# Altium schematic symbol library Symbols.SchLib: 494 symbols (part 5 of 5)
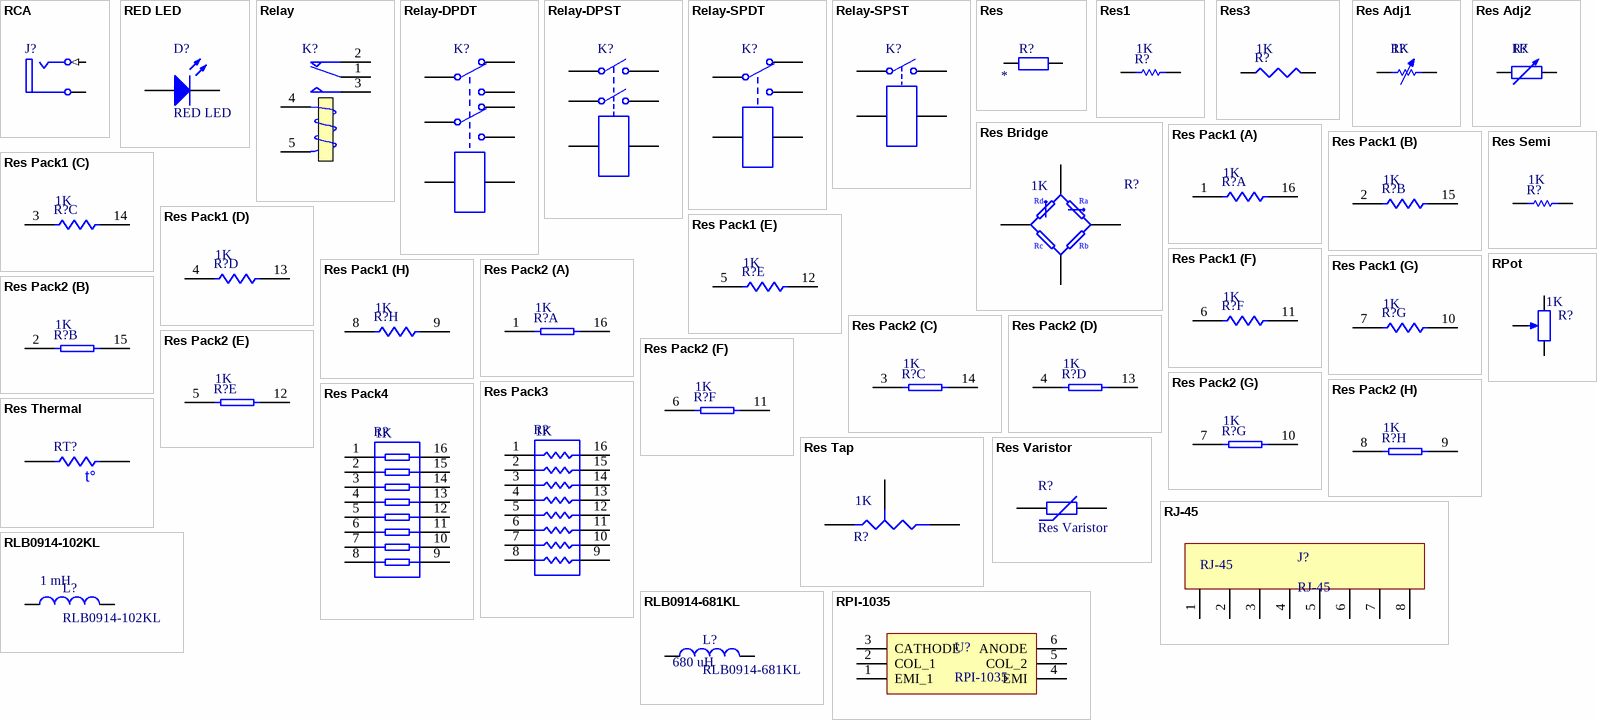
[diagram p17: symbols RCA to RPot]

## Res Pack3
designator R?  value 1K
Isolated Resistor Network; Published: 24-Mar-1999; LatestRevisionDate: 29-May-2009; LatestRevisionNote: IPC-7351 Footprint Added.; PackageReference: SO-16; Publisher: Altium Limited; PackageDescription: 16-Pin Small Outline Integrated Circuit 1.27 mm Pitch; Code_JEDEC: MS-012-AC; Code_IPC: SOIC127P600-16
footprint SO-16_N (SOIC, 16-Leads, Body 9.9x3.9mm, Pitch 1.27mm, IPC Medium Density)
footprint SO-16_L (SOIC, 16-Leads, Body 9.9x3.9mm, Pitch 1.27mm, IPC High Density)
footprint SO-16_M (SOIC, 16-Leads, Body 9.9x3.9mm, Pitch 1.27mm, IPC Low Density)
pins: 1, 2, 3, 4, 5, 6, 7, 8, 9, 10, 11, 12, 13, 14, 15, 16

## Res Pack4
designator R?  value 1K
Isolated Resistor Network; Published: 24-Mar-1999; LatestRevisionDate: 29-May-2009; LatestRevisionNote: IPC-7351 Footprint Added.; PackageVersion: Oct-2003; PackageReference: SSOP16; Publisher: Altium Limited; PackageDescription: 16-Pin Plastic Small Outline Package 0.65 mm Pitch; Code_JEDEC: MO-150-AC; Code_IPC: SOP65P780-16
footprint SSOP16_N (SOP, 16-Leads, Body 6.2x5.3mm, Pitch 0.65mm, IPC Medium Density)
footprint SSOP16_L (SOP, 16-Leads, Body 6.2x5.3mm, Pitch 0.65mm, IPC High Density)
footprint SSOP16_M (SOP, 16-Leads, Body 6.2x5.3mm, Pitch 0.65mm, IPC Low Density)
pins: 1, 2, 3, 4, 5, 6, 7, 8, 9, 10, 11, 12, 13, 14, 15, 16

## Res Semi
designator R?  value 1K
Semiconductor Resistor; Published: 8-Jun-2000; LatestRevisionDate: 17-Jul-2002; LatestRevisionNote: Re-released for DXP Platform.; PackageReference: AXIAL-0.5; Publisher: Altium Limited; PackageDescription: Axial Device, Thru-Hole; 2 Leads; 0.5 in Pin Spacing
footprint AXIAL-0.5 (Axial Device, Thru-Hole; 2 Leads; 0.5 in Pin Spacing)
pins: 1, 2

## Res Tap
designator R?  value 1K
Tapped Resistor; Sim Note: Enter the Resistance value and the set point into parameter fields.; Set Position: 0.5; Published: 24-Mar-1999; LatestRevisionDate: 17-Jul-2002; LatestRevisionNote: Re-released for DXP Platform.; PackageReference: VR3; Publisher: Altium Limited; PackageDescription: Variable Resistor, Thru-Hole; 3 Leads
footprint VR3 (Thru-Hole; 3 Leads)
simulation model POT (Potentiometer)
signal-integrity model Res Tap
pins: 1 A, 2 B, 3 TAP

## Res Thermal
designator RT?
Thermistor; Published: 24-Mar-1999; LatestRevisionDate: 29-May-2009; LatestRevisionNote: IPC-7351 Footprint Added.; PackageVersion: Mar-2003; PackageReference: 6-0805; Publisher: Altium Limited; PackageDescription: Chip Resistor 0805 Case Size; Code_IPC: RESC2012
footprint 6-0805_N (Chip Resistor, Body 2.0x1.2mm, IPC Medium Density)
footprint 6-0805_L (Chip Resistor, Body 2.0x1.2mm, IPC High Density)
footprint 6-0805_M (Chip Resistor, Body 2.0x1.2mm, IPC Low Density)
pins: 1, 2
text: t°

## Res Varistor
designator R?
Varistor (Voltage-Sensitive Resistor); ComponentLink2Description: Datasheet; ComponentLink1Description: Supplierlink
footprint 6-0805_N (Chip Resistor, Body 2.0x1.2mm, IPC Medium Density)
footprint 6-0805_L (Chip Resistor, Body 2.0x1.2mm, IPC High Density)
footprint 6-0805_M (Chip Resistor, Body 2.0x1.2mm, IPC Low Density)
pins: 1, 2

## RJ-45
designator J?
ComponentLink1Desciption: Supplierlink; PackageDescription: /; ComponentLink1URL: /; ComponentLink2Description: Datasheet; ComponentLink2URL: /; Supplier1: Farnell; SupplierPartNumber1: /
footprint RJ-45 (RJ-45 - Female)
pins: 1, 2, 3, 4, 5, 6, 7, 8

## RLB0914-102KL
designator L?  value 1 mH
RLB0914-102KL - Power inductor; ComponentLink1Description: Supplierlink; PackageDescription: Power inductor; ComponentLink1URL: http://si.farnell.com/bourns/rlb0914-102kl/inductor-radial-1000uh-10-0-3a/dp/1929764?ost=RLB0914-102KL&ddkey=http%3Asl-SL%2FElement14_Slovenia%2Fsearch; ComponentLink2Description: Datasheet; ComponentLink2URL: http://www.farnell.com/datasheets/2360349.pdf?_ga=2.135326777.922487917.1516839557-388806631.1512489217&_gac=1.249791092.1516696408.CjwKCAiA15vTBRAHEiwA7Snfc5aPYeD-J5ttgd5Xc7ZZSl9RhLSVBUwuJalpvFcgftWcOaxsZ6YiBhoC5JcQAvD_BwE; Supplier1: Farnell; SupplierPartNumber1: 1929764
footprint Inductor_RLB0914 (Inductor)
pins: 2, 3

## RLB0914-681KL
designator L?  value 680 uH
Power inductor; ComponentLink1Description: Supplierlink; PackageDescription: RLB0914; ComponentLink1URL: https://eu.mouser.com/ProductDetail/Bourns/RLB0914-681KL?qs=sGAEpiMZZMvMnj9fkisOGACPsI8OTpBu; ComponentLink2Description: Datasheet; ComponentLink2URL: https://eu.mouser.com/datasheet/2/54/RLB-972764.pdf; Supplier1: Mouser; SupplierPartNumber1: 652-RLB0914-681KL
footprint RLB0914 (Radial Lead Inductor)
pins: 1, 2

## RPI-1035
designator U?
RPI-1035 Surface Mount Type 4-Direction Detector; ComponentLink1Description: Supplierlink; PackageDescription: RPI-1035; ComponentLink1URL: https://eu.mouser.com/ProductDetail/ROHM-Semiconductor/RPI-1035?qs=sGAEpiMZZMueJGT%2F0PGc44KkpygAwh8fznas5BrcBRY%3D; ComponentLink2Description: Datasheet; ComponentLink2URL: https://eu.mouser.com/datasheet/2/348/rpi-1035-516277.pdf; Supplier1: Mouser; SupplierPartNumber1: 755-RPI-1035
footprint RPI-1035 (Surface Mount Type 4-Direction Detector)
pins: 1 EMI_1, 2 COL_1, 3 CATHODE, 4 EMI, 5 COL_2, 6 ANODE

## RPot
designator R?  value 1K
Potentiometer; Sim Note: Enter the Resistance value and the set point into parameter fields.; Set Position: 0.5; Published: 8-Jun-2000; LatestRevisionDate: 17-Jul-2002; LatestRevisionNote: Re-released for DXP Platform.; PackageReference: VR5; Publisher: Altium Limited; PackageDescription: Variable Resistor, Thru-Hole; 3 Leads
footprint VR5 (Thru-Hole; 3 Leads)
pins: 1, 2, 3
1 alternate drawing of the same symbol

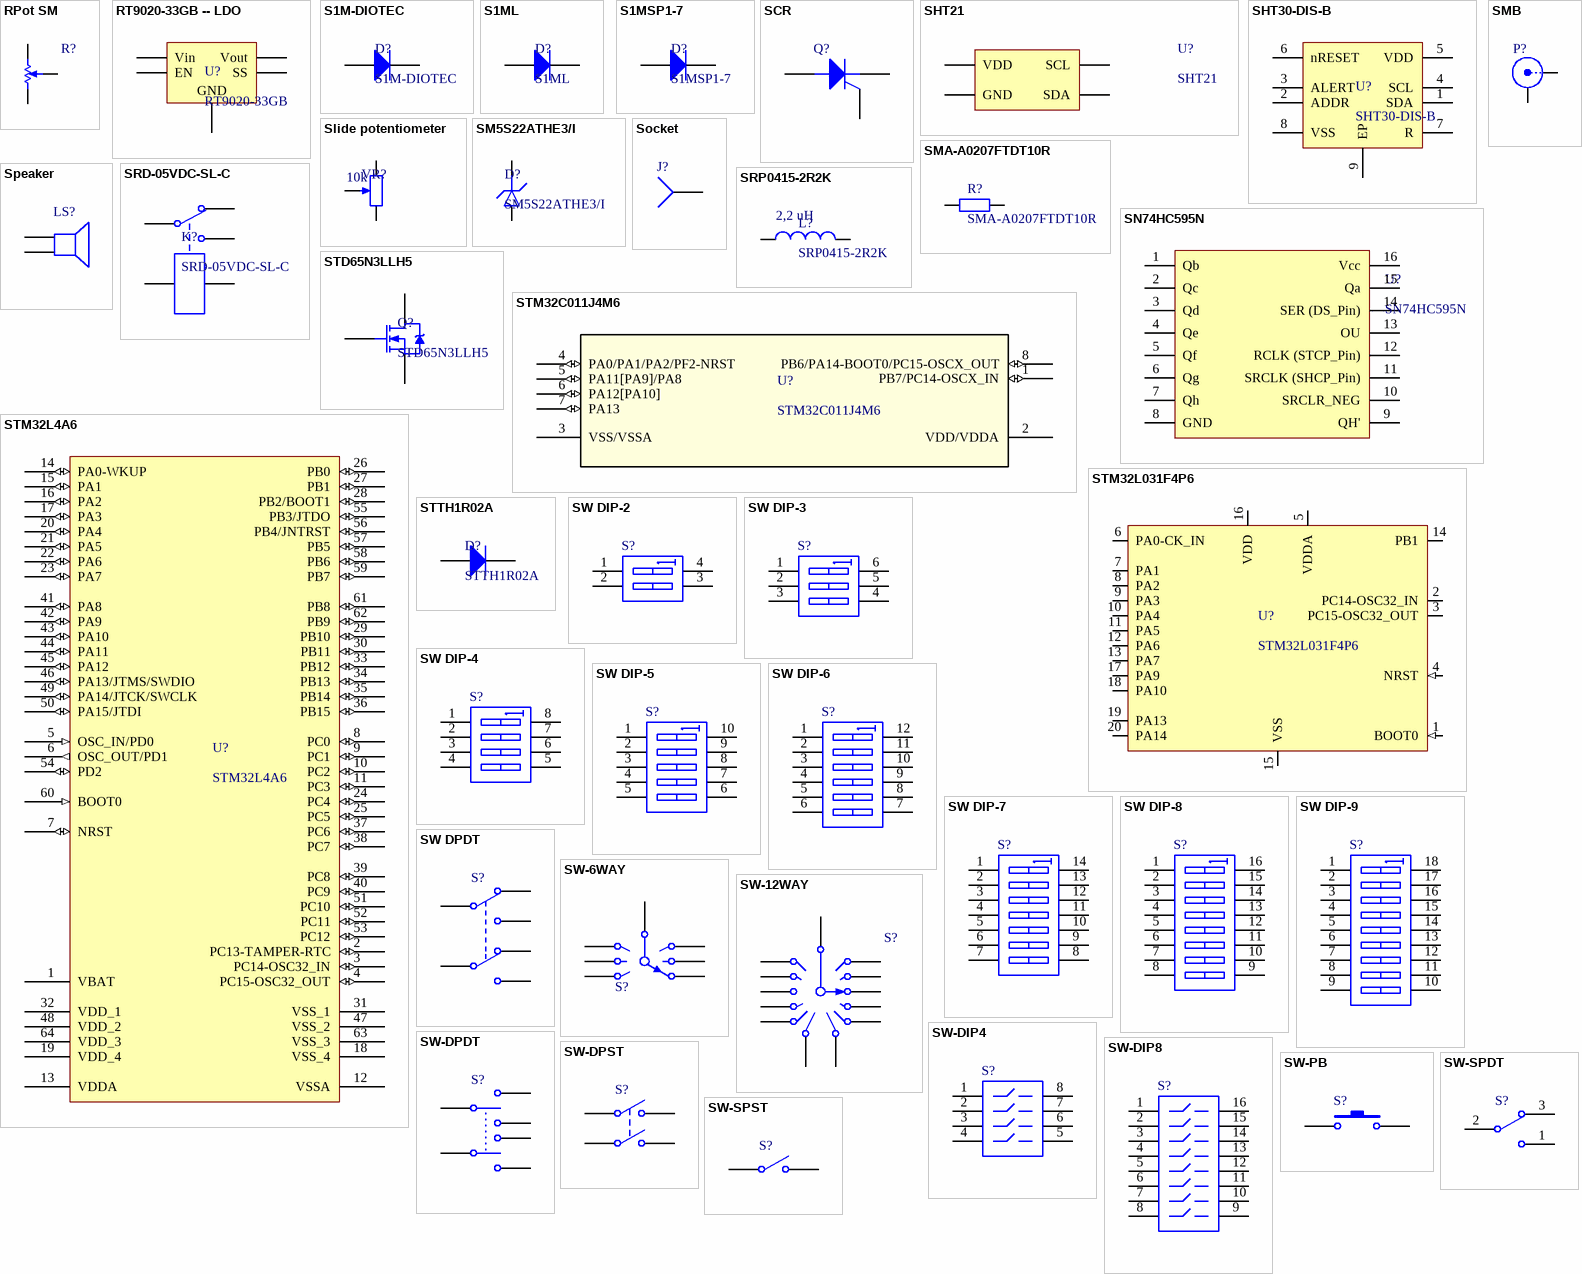
[diagram p11: symbols RPot SM to SW-SPST]

## RPot SM
designator R?
Square Trimming Potentiometer; Published: 17-Dec-2003; DatasheetVersion: Oct-2003; PackageReference: POT4MM-2; Publisher: Altium Limited; PackageDescription: Square Trimming Potentiometer; ComponentLink1Description: Manufacturer Link; ComponentLink1URL: http://bourns.com/2/search.html
footprint POT4MM-2 (Square Trimming Potentiometer)
pins: CCW -, CW +, W
1 alternate drawing of the same symbol

## RT9020-33GB -- LDO
designator U?, comment RT9020-33GB
LDO; 2.2V to 5.5V, 250mV Dropout, 3.3Vout, 500mAout; ComponentLink1Description: Supplierlink; PackageDescription: SOT-23-5; ComponentLink1URL: https://si.farnell.com/richtek/rt9020-33gb/ldo-fixed-3-3v-0-5a-sot-23-5/dp/2377629; ComponentLink2Description: Datasheet; ComponentLink2URL: http://www.farnell.com/datasheets/1782114.pdf?_ga=2.221635611.222861561.1549803267-1151660017.1534334933&_gac=1.93756527.1548779359.Cj0KCQiAkMDiBRDNARIsACKP1FEg8SfSMTNRZFh814XftwOM7CrPVrvo9a7QR5ChQ4a7cfNiQJOCbUsaAr2lEALw_wcB; Supplier1: Farnell; SupplierPartNumber1: 2377629
footprint SOT23-5 (SOT23, 5-Leads, Body 2,90x2,80mm, Pitch 0,95mm, IPC Medium Density)
pins: 1 Vin, 2 GND, 3 EN, 4 SS, 5 Vout

## S1M-DIOTEC
designator D?
Rectifying diode; ComponentLink1Description: Supplierlink; PackageDescription: SMA; ComponentLink1URL: https://www.tme.eu/sl/details/s1m-dio/univerzalne-smd-diode/diotec-semiconductor/s1m/; ComponentLink2Description: Datasheet; ComponentLink2URL: https://www.tme.eu/sl/Document/847625da169ad5ed3efdb446f845004f/s1a.pdf; Supplier1: TME; SupplierPartNumber1: https://www.tme.eu/sl/details/s1m-dio/univerzalne-smd-diode/diotec-semiconductor/s1m/
footprint SMA
pins: 1 A, 2 K

## S1ML
designator D?
Standard Recovery Diode; ComponentLink1Description: Supplierlink; PackageDescription: Sub SMA; ComponentLink1URL: http://si.farnell.com/taiwan-semiconductor/s1ml/diode-sgp-1a-1000v/dp/1559155?st=S1ML; ComponentLink2Description: Datasheet; ComponentLink2URL: http://www.farnell.com/datasheets/2357978.pdf?_ga=2.171170336.1251588291.1526283900-1866036872.1506721459&_gac=1.156643785.1526543482.Cj0KCQjw0PTXBRCGARIsAKNYfG3CgC2yuWwn0NFqThRVas1EoCsUnIm2-1JegXclTCFoy4mvnlJ8NMoaAiQiEALw_wcB; Supplier1: Farnell; SupplierPartNumber1: 1559155
footprint Sub-SMA
pins: 1 A, 2 K

## S1MSP1-7
designator D?
S1MSP1-7 -  Standard Power Diode; ComponentLink1Description: Supplierlink; PackageDescription: PowerDI123; ComponentLink1URL: http://si.farnell.com/diodes-inc/s1msp1-7/rectifier-single-1kv-1a-powerdi123/dp/2709563?ost=2709563&iscrfnonsku=false&ddkey=http%3Asl-SL%2FElement14_Slovenia%2Fsearch; ComponentLink2Description: Datasheet; ComponentLink2URL: http://www.farnell.com/datasheets/2211407.pdf?_ga=2.218430301.595311603.1510137230-1866036872.1506721459&_gac=1.149546820.1509893228.CjwKCAjw7frPBRBVEiwAuDf_LXlrjw5vBXiuyKtw25GuiPLDKV5cnVdEcFzcF753v9PaBj8Hg6kd-RoC_yYQAvD_BwE; Supplier1: Farnell; SupplierPartNumber1: 2709563
footprint PowerDI123
pins: 1 A, 2 K

## SCR
designator Q?
Silicon Controlled Rectifier; Published: 8-Jun-2000; LatestRevisionDate: 17-Jul-2002; LatestRevisionNote: Re-released for DXP Platform.; PackageReference: TO-220-AB; Publisher: Altium Limited; Code_JEDEC: TO-220-AB
footprint TO-220-AB (TO, Thru-Hole, Vertical, Heatsink Mounted; 3 In-Line Leads; Pitch 2.54 mm)
pins: 1 A, 2 G, 3 K

## SHT21
designator U?
SENSIRION  SHT21  Humidity Sensor; ComponentLink1Desciption: Supplierlink; PackageDescription: Humidity Sensor; ComponentLink1URL: http://si.farnell.com/sensirion/sht21/sensor-humidity-temp-3x3mm-2/dp/1855468; ComponentLink2Description: Datasheet; ComponentLink2URL: http://www.farnell.com/datasheets/1780639.pdf?_ga=1.117639745.938531117.1476279422; Supplier1: Farnell; SupplierPartNumber1: 1855468
pins: 1 SDA, 2 GND, 5 VDD, 6 SCL

## SHT30-DIS-B
designator U?
Humidity and temperature sensor; PackageDescription: DFN; ComponentLink2Description: Datasheet; ComponentLink1URL: https://www.tme.eu/sl/details/sht30-dis-b/tipala-vlaznosti/sensirion/1-101400-01/; Supplier1: TME; SupplierPartNumber1: https://www.tme.eu/sl/details/sht30-dis-b/tipala-vlaznosti/sensirion/1-101400-01/; ComponentLink1Description: Supplierlink; ComponentLink2URL: http://www.mouser.com/ds/2/682/Sensirion_Humidity_Sensors_SHT3x_Datasheet_digital-971521.pdf
footprint DFN_SHT3x
pins: 1 SDA, 2 ADDR, 3 ALERT, 4 SCL, 5 VDD, 6 nRESET, 7 R, 8 VSS, 9 EP

## Slide potentiometer
designator VR?, comment value 10k  (hidden comment: Potentiometer)
PTA4543-2015DPA103  Potentiometer; ComponentLink1Desciption: Supplierlink; PackageDescription: /; ComponentLink1URL: http://si.farnell.com/bourns/pta4543-2015dpa103/potentiometer-slide-10k-45mm/dp/1688414?ost=PTA4543-2015DPA103&selectedCategoryId=&categoryNameResp=Vse%2Bkategorije&searchView=table&iscrfnonsku=false; ComponentLink2Description: Datasheet; ComponentLink2URL: http://www.farnell.com/datasheets/1874874.pdf?_ga=1.46992743.1762308356.1476454189; Supplier1: Farnell; Supplier Part Number 1: 1688414
footprint Slide potentiometer
pins: 1, 2, 3

## SM5S22ATHE3/I
designator D?
ESD Suppressors / TVS Diodes 5W,22V 5%,SMD PAR AEC-Q101 Qualified; ComponentLink1Description: Supplierlink; PackageDescription: PowerDI123; ComponentLink1URL: https://eu.mouser.com/ProductDetail/Vishay-General-Semiconductor/SM5S22ATHE3-I?qs=Vcr9%2FL0R50gQwdAZT2MpLw%3D%3D; ComponentLink2Description: Datasheet; ComponentLink2URL: https://www.vishay.com/docs/87609/sm5s10atthrusm5s36at.pdf; Supplier1: Mouser; SupplierPartNumber1: 78-SM5S22ATHE3/I
footprint DO-218AB_SM_VIS
pins: A, K

## SMA-A0207FTDT10R
designator R?
Surface Mount MELF Resistor; Value: 10; ComponentLink1Description: Supplierlink; PackageDescription: 0207; ComponentLink1URL: http://si.farnell.com/te-connectivity/sma-a0207ftdt10r/melf-res-auto-metal-film-10r-0207/dp/2838189; ComponentLink2Description: Datasheet; ComponentLink2URL: http://www.farnell.com/datasheets/2574553.pdf?_ga=2.187356328.1251588291.1526283900-1866036872.1506721459&_gac=1.79558118.1525855951.Cj0KCQjwuMrXBRC_ARIsALWZrIibZWF17JbgJiSdnIQu6R7N70BQTmGWvfufllYUypD4y4Tmy1UjmekaAhjDEALw_wcB; Supplier1: Farnell; SupplierPartNumber1: 2838189
footprint SMA-A0207
pins: 1, 2

## SMB
designator P?
SMB Straight Connector; LatestRevisionDate: 17-Jul-2002; LatestRevisionNote: Re-released for DXP Platform.; Publisher: Altium Limited
footprint SMB_V-RJ45 (Connector; SMB Straight)
signal-integrity model Connector
pins: 1 X, 2 Y

## SN74HC595N
designator U?
SN74HC595N - Shift Register; ComponentLink1Desciption: Supplierlink; PackageDescription: Shift Register; ComponentLink1URL: http://si.farnell.com/texas-instruments/sn74hc595n/shift-register-8bit-74hc595-dip16/dp/9591664; ComponentLink2Description: Datasheet; ComponentLink2URL: http://www.ti.com/lit/ds/symlink/sn74hc595.pdf; Supplier1: Farnell; Supplier Part Number 1: 9591664
footprint DIP-16 (DIP; 16 Leads; Row Spacing 7.62 mm; Pitch 2.54 mm)
pins: 1 Qb, 2 Qc, 3 Qd, 4 Qe, 5 Qf, 6 Qg, 7 Qh, 8 GND, 9 QH', 10 SRCLR_NEG, 11 SRCLK (SHCP_Pin), 12 RCLK (STCP_Pin), 13 OU, 14 SER (DS_Pin), 15 Qa, 16 Vcc

## Socket
designator J?
Socket; LatestRevisionDate: 17-Jul-2002; LatestRevisionNote: Re-released for DXP Platform.; Publisher: Altium Limited
footprint PIN1 (Connector; Socket)
signal-integrity model Connector
pins: 1

## Speaker
designator LS?
Loudspeaker; Published: 24-Mar-1999; LatestRevisionDate: 17-Jul-2002; LatestRevisionNote: Re-released for DXP Platform.; PackageReference: PIN2; Publisher: Altium Limited
footprint PIN2 (Loudspeaker; 2 Leads)
pins: 1, 2

## SRD-05VDC-SL-C
designator K?
LNK306DN - AC/DC Off-Line Switcher IC; ComponentLink1Description: Supplierlink; PackageDescription: Relay; ComponentLink2Description: Datasheet; ComponentLink2URL: https://datasheetspdf.com/pdf-file/720556/Songle/SRD-05VDC-SL-C/1
footprint SRD-05VDC (5 Round Pins)
pins: 1, 2, 3, 4, 5

## SRP0415-2R2K
designator L?  value 2,2 uH
Power Inductor (SMD), 2.2 µH, 4.2 A, Shielded, 6.5 A, SRP0415; ComponentLink1Description: Supplierlink; PackageDescription: 4,1 x 4,4 mm; ComponentLink1URL: https://si.farnell.com/bourns/srp0415-2r2k/inductor-2-2uh-shielded-4-2a/dp/3410557?st=srp0415-2r2k; ComponentLink2Description: Datasheet; ComponentLink2URL: http://www.farnell.com/datasheets/1780639.pdf?_ga=1.11763974http://www.farnell.com/datasheets/1870377.pdf?_ga=2.97039455.1713077709.1510607325-537448299.1510088633&_gac=1.187392858.1510611497.CjwKCAiAoqXQBRA8EiwAIIOWsuqxOSeUt0rc_qHWWY-BiEXPlEM73fxauWSkJ-z_Lq9BZTEckF83wRoCiNIQAvD_BwE5.938531117.1476279422; Supplier1: Farnell; SupplierPartNumber1: 3410557
footprint SRP0415
pins: 1, 2

## STD65N3LLH5
designator Q?
Power MOSFET, N Channel, 30 V, 65 A, 0.0061 ohm; ComponentLink1Description: Supplierlink; PackageDescription: TO-252 (DPAK); ComponentLink1URL: https://si.farnell.com/stmicroelectronics/std65n3llh5/mosfet-n-ch-30v-65a-to-252/dp/2807192; ComponentLink2Description: Datasheet; ComponentLink2URL: http://www.farnell.com/datasheets/2371833.pdf; Supplier1: Farnell; SupplierPartNumber1: 2807192
footprint DPAK (TO-252)
pins: 1 G, 2 D, 3 S

## STM32C011J4M6
designator U?
STM32 Family STM32C0 Series Microcontrollers, ARM Cortex-M0+, 32 bit, 48 MHz, 16 KB; ComponentLink1Description: Supplierlink; PackageDescription: SO8N; ComponentLink1URL: https://si.farnell.com/stmicroelectronics/stm32c011j4m6/arm-mcu-32bit-48mhz-nsoic-8/dp/4138300?ost=stm32c011j4m6; ComponentLink2Description: Datasheet; ComponentLink2URL: https://www.farnell.com/datasheets/3916622.pdf; Supplier1: Farnell; SupplierPartNumber1: 4138300
footprint SO-8_STM
pins: 1 PB7/PC14-OSCX_IN (io), 2 VDD/VDDA (power), 3 VSS/VSSA (power), 4 PA0/PA1/PA2/PF2-NRST (io), 5 PA11[PA9]/PA8 (io), 6 PA12[PA10] (io), 7 PA13 (io), 8 PB6/PA14-BOOT0/PC15-OSCX_OUT (io)

## STM32L4A6
designator U?
STM32L4A6 Microcontroller; ComponentLink1Desciption: Supplierlink; PackageDescription: Microcontroller; ComponentLink1URL: http://si.farnell.com/stmicroelectronics/stm32l4a6rgt7/mcu-arm-cortex-m4-80mhz-lqfp-64/dp/2758831?ost=STM32L4A6&searchView=table&iscrfnonsku=false&ddkey=http%3Asl-SL%2FElement14_Slovenia%2Fsearch; ComponentLink2Description: Datasheet; ComponentLink2URL: http://www.farnell.com/datasheets/2283397.pdf?_ga=2.48280294.1999906171.1506331828-1762308356.1476454189&_gac=1.181737045.1505417300.Cj0KCQjw0ejNBRCYARIsACEBhDMkoxB3c397j3-6BvrbkTGkJ_OmE0RzXQhL_VQJ3DPIhHEcu3y60B8aAjszEALw_wcB; Supplier1: Farnell; Supplier Part Number 1: 2758831
footprint LQFP64 (Thin QFP, 64-Leads, Body 10x10mm, Pitch 0.5mm, IPC Medium Density)
pins: 1 VBAT (power), 2 PC13-TAMPER-RTC (io), 3 PC14-OSC32_IN (io), 4 PC15-OSC32_OUT (io), 5 OSC_IN/PD0 (in), 6 OSC_OUT/PD1 (out), 7 NRST (io), 8 PC0 (io), 9 PC1 (io), 10 PC2 (io), 11 PC3 (io), 12 VSSA (power), 13 VDDA (power), 14 PA0-WKUP (io), 15 PA1 (io), 16 PA2 (io), 17 PA3 (io), 18 VSS_4 (power), 19 VDD_4 (power), 20 PA4 (io), 21 PA5 (io), 22 PA6 (io), 23 PA7 (io), 24 PC4 (io), 25 PC5 (io), 26 PB0 (io), 27 PB1 (io), 28 PB2/BOOT1 (io), 29 PB10 (io), 30 PB11 (io), 31 VSS_1 (power), 32 VDD_1 (power), 33 PB12 (io), 34 PB13 (io), 35 PB14 (io), 36 PB15 (io), 37 PC6 (io), 38 PC7 (io), 39 PC8 (io), 40 PC9 (io), 41 PA8 (io), 42 PA9 (io), 43 PA10 (io), 44 PA11 (io), 45 PA12 (io), 46 PA13/JTMS/SWDIO (io), 47 VSS_2 (power), 48 VDD_2 (power), 49 PA14/JTCK/SWCLK (io), 50 PA15/JTDI (io), 51 PC10 (io), 52 PC11 (io), 53 PC12 (io), 54 PD2 (io), 55 PB3/JTDO (io), 56 PB4/JNTRST (io), 57 PB5 (io), 58 PB6 (io), 59 PB7 (io), 60 BOOT0 (in), 61 PB8 (io), 62 PB9 (io), 63 VSS_3 (power), 64 VDD_3 (power)

## STM32L031F4P6
designator U?
Access line ultra-low-power 32-bit MCU Arm®-based / Cortex®-M0+, up to 32KB Flash, 8KB SRAM, 1KB EEPROM, ADC; ComponentLink1Description: Supplierlink; PackageDescription: TSSOP; ComponentLink1URL: https://si.farnell.com/stmicroelectronics/stm32l031f4p6/mcu-arm-cortex-m0-32mhz-tssop/dp/2770299?gclid=Cj0KCQjwgNanBhDUARIsAAeIcAsvU6dmqvMp5MVE-0sNDLjaUK4LtGccWXp1TXJz6kN2eYlTZZ089QkaAo1SEALw_wcB&mckv=sMuoSKpXF_dc|pcrid|289561886841|kword|stm32l031f4p6|match|p|plid||slid||product||pgrid|35804823499|ptaid|aud-913880707580:kwd-530299959512|&CMP=KNC-GSI-GEN-SKU-G50-STMICROELECTRONICS-0617; ComponentLink2Description: Datasheet; ComponentLink2URL: https://4donline.ihs.com/images/VipMasterIC/IC/SGST/SGST-S-A0002219924/SGST-S-A0002219924-1.pdf?hkey=6D3A4C79FDBF58556ACFDE234799DDF0; Supplier1: Farnell; SupplierPartNumber1: 2770299
footprint TSSOP-20 (TSOP, 20-Leads, Body 6,50x4,40mm, Pitch 0,65mm, IPC Medium Density)
pins: 1 BOOT0 (in), 2 PC14-OSC32_IN, 3 PC15-OSC32_OUT, 4 NRST (in), 5 VDDA (power), 6 PA0-CK_IN, 7 PA1, 8 PA2, 9 PA3, 10 PA4, 11 PA5, 12 PA6, 13 PA7, 14 PB1, 15 VSS (power), 16 VDD (power), 17 PA9, 18 PA10, 19 PA13, 20 PA14

## STTH1R02A
designator D?
STTH1R02A -  Fast / Ultrafast Diode; ComponentLink1Description: Supplierlink; PackageDescription: DO-214AC (SMA); ComponentLink1URL: http://si.farnell.com/stmicroelectronics/stth1r02a/026003000-discretes/dp/2353664; ComponentLink2Description: Datasheet; ComponentLink2URL: http://www.farnell.com/datasheets/1724014.pdf?_ga=2.217187156.398955308.1510494977-1866036872.1506721459&_gac=1.115362548.1509893228.CjwKCAjw7frPBRBVEiwAuDf_LXlrjw5vBXiuyKtw25GuiPLDKV5cnVdEcFzcF753v9PaBj8Hg6kd-RoC_yYQAvD_BwE; Supplier1: Farnell; SupplierPartNumber1: 2353664
footprint DO-214AC (SMA)
pins: 1 A, 2 K

## SW DIP-2
designator S?
DIP Switch, 2 Position, SPST; Published: 24-Mar-1999; LatestRevisionDate: 17-Jul-2002; LatestRevisionNote: Re-released for DXP Platform.; PackageReference: DIP-4; Publisher: Altium Limited
footprint DIP-4 (DIP; 4 Leads; Row Spacing 7.62 mm; Pitch 2.54 mm)
pins: 1 A1, 2 A2, 3 B2, 4 B1

## SW DIP-3
designator S?
DIP Switch, 3 Position, SPST; Published: 24-Mar-1999; LatestRevisionDate: 17-Jul-2002; LatestRevisionNote: Re-released for DXP Platform.; PackageReference: DIP-6; Publisher: Altium Limited; Code_JEDEC: MO-001-AM
footprint DIP-6 (DIP; 6 Leads; Row Spacing 7.62 mm; Pitch 2.54 mm)
pins: 1 A1, 2 A2, 3 A3, 4 B3, 5 B2, 6 B1

## SW DIP-4
designator S?
DIP Switch, 4 Position, SPST; Published: 24-Mar-1999; LatestRevisionDate: 29-May-2009; LatestRevisionNote: IPC-7351 Footprint Added.; PackageVersion: Dec-2002; PackageReference: SO8; Publisher: Altium Limited; PackageDescription: 8-Pin Small Outline Integrated Circuit 1.27 mm Pitch; Code_JEDEC: MS-012-AA; Code_IPC: SOIC127P600-8
footprint SO8_N (SOIC, 8-Leads, Body 4.9x3.9mm, Pitch 1.27mm, IPC Medium Density)
footprint SO8_L (SOIC, 8-Leads, Body 4.9x3.9mm, Pitch 1.27mm, IPC High Density)
pins: 1 A1, 2 A2, 3 A3, 4 A4, 5 B4, 6 B3, 7 B2, 8 B1

## SW DIP-5
designator S?
DIP Switch, 5 Position, SPST; Published: 24-Mar-1999; LatestRevisionDate: 17-Jul-2002; LatestRevisionNote: Re-released for DXP Platform.; PackageReference: N10A; Publisher: Altium Limited
footprint N10A (DIP; 10 Leads; Row Spacing 7.62 mm; Pitch 2.54 mm)
pins: 1 A1, 2 A2, 3 A3, 4 A4, 5 A5, 6 B5, 7 B4, 8 B3, 9 B2, 10 B1

## SW DIP-6
designator S?
DIP Switch, 6 Position, SPST; Published: 24-Mar-1999; LatestRevisionDate: 17-Jul-2002; LatestRevisionNote: Re-released for DXP Platform.; PackageReference: DIP-12/SW; Publisher: Altium Limited; PackageDescription: DIP Switch; 12 Leads
footprint DIP-12/SW (DIP Switch; 12 Leads)
pins: 1 A1, 2 A2, 3 A3, 4 A4, 5 A5, 6 A6, 7 B6, 8 B5, 9 B4, 10 B3, 11 B2, 12 B1

## SW DIP-7
designator S?
DIP Switch, 7 Position, SPST; Published: 24-Mar-1999; LatestRevisionDate: 17-Jul-2002; LatestRevisionNote: Re-released for DXP Platform.; PackageReference: DIP-14; Publisher: Altium Limited; Code_JEDEC: MO-001-AF
footprint DIP-14 (DIP; 14 Leads; Row Spacing 7.62 mm; Pitch 2.54 mm)
pins: 1 A1, 2 A2, 3 A3, 4 A4, 5 A5, 6 A6, 7 A7, 8 B7, 9 B6, 10 B5, 11 B4, 12 B3, 13 B2, 14 B1

## SW DIP-8
designator S?
DIP Switch, 8 Position, SPST; Published: 24-Mar-1999; LatestRevisionDate: 17-Jul-2002; LatestRevisionNote: Re-released for DXP Platform.; PackageReference: DIP_SW_8WAY_SMD; Publisher: Altium Limited; PackageDescription: DIP Switch; 16 Leads
footprint DIP_SW_8WAY_SMD (DIP Switch; 16 Leads)
pins: 1 A1, 2 A2, 3 A3, 4 A4, 5 A5, 6 A6, 7 A7, 8 A8, 9 B8, 10 B7, 11 B6, 12 B5, 13 B4, 14 B3, 15 B2, 16 B1

## SW DIP-9
designator S?
DIP Switch, 9 Position, SPST; Published: 24-Mar-1999; LatestRevisionDate: 17-Jul-2002; LatestRevisionNote: Re-released for DXP Platform.; PackageReference: DIP-18; Publisher: Altium Limited; Code_JEDEC: MO-036-AE
footprint DIP-18 (DIP; 18 Leads; Row Spacing 7.62 mm; Pitch 2.54 mm)
pins: 1 A1, 2 A2, 3 A3, 4 A4, 5 A5, 6 A6, 7 A7, 8 A8, 9 A9, 10 B9, 11 B8, 12 B7, 13 B6, 14 B5, 15 B4, 16 B3, 17 B2, 18 B1

## SW DPDT
designator S?
Switch; Published: 24-Mar-1999; LatestRevisionDate: 29-May-2009; LatestRevisionNote: IPC-7351 Footprint Added.; PackageVersion: Mar-2001; PackageReference: SOT23-6; Publisher: Altium Limited; PackageDescription: 6-Pin SOT-23 Package 0.95 mm Pitch, 2.7 mm Lead Span; Code_JEITA: SC-74; Code_IPC: SOT26A-6
footprint SOT23-6_N (SOT23, 6-Leads, Body 2.9x1.6mm, Pitch 0.95mm, Lead Span 2.7mm, IPC Medium Density)
footprint SOT23-6_L (SOT23, 6-Leads, Body 2.9x1.6mm, Pitch 0.95mm, Lead Span 2.7mm, IPC High Density)
footprint SOT23-6_M (SOT23, 6-Leads, Body 2.9x1.6mm, Pitch 0.95mm, Lead Span 2.7mm, IPC Low Density)
pins: 1 COMMON1, 2 NC1, 3 NO1, 4 NC2, 5 COMMON2, 6 NO2

## SW-6WAY
designator S?
6 Way Switch; Published: 24-Mar-1999; LatestRevisionDate: 17-Jul-2002; LatestRevisionNote: Re-released for DXP Platform.; PackageReference: SW-7; Publisher: Altium Limited; PackageDescription: Switch; 7 Leads
footprint SW-7 (Switch; 7 Leads)
pins: 1, 2, 3, 4, 5, 6, 7

## SW-12WAY
designator S?
12 Way Switch; Published: 24-Mar-1999; LatestRevisionDate: 17-Jul-2002; LatestRevisionNote: Re-released for DXP Platform.; PackageReference: DIP-13(14); Publisher: Altium Limited
footprint DIP-13(14) (DIP; 14 Leads (1 Absent); Row Spacing 7.62 mm; Pitch 2.54 mm)
pins: 1, 2, 3, 5, 6, 7, 8, 9, 10, 11, 12, 13, 14

## SW-DIP4
designator S?
DIP Switch; Published: 24-Mar-1999; LatestRevisionDate: 17-Jul-2002; LatestRevisionNote: Re-released for DXP Platform.; PackageReference: DIP-8; Publisher: Altium Limited
footprint DIP-8 (DIP; 8 Leads; Row Spacing 7.62 mm; Pitch 2.54 mm)
pins: 1, 2, 3, 4, 5, 6, 7, 8

## SW-DIP8
designator S?
4009 Series DIP Switch, Raised actuator; Published: 24-Mar-1999; LatestRevisionDate: 17-Dec-2003; LatestRevisionNote: PCB Footprint replaced.; PackageReference: DIP-16-KEY; Publisher: Altium Limited; PackageDescription: DIP; 16 Leads; Row Spacing 7.62 mm; Pitch 2.54 mm; ComponentLink1Description: Manufacturer Link; ComponentLink1URL: http://www.oupiin.com/prodindx.html#Headers
footprint DIP-16-KEY (DIP; 16 Leads; Row Spacing 7.62 mm; Pitch 2.54 mm)
pins: 1, 2, 3, 4, 5, 6, 7, 8, 9, 10, 11, 12, 13, 14, 15, 16

## SW-DPDT
designator S?
Double-Pole, Double-Throw Switch; Published: 24-Mar-1999; LatestRevisionDate: 17-Jul-2002; LatestRevisionNote: Re-released for DXP Platform.; PackageReference: DPDT-6; Publisher: Altium Limited; PackageDescription: Switch; 6 Leads
footprint DPDT-6 (Switch; 6 Leads)
pins: 1, 2, 3, 4, 5, 6

## SW-DPST
designator S?
Double-Pole, Single-Throw Switch; Published: 24-Mar-1999; LatestRevisionDate: 17-Jul-2002; LatestRevisionNote: Re-released for DXP Platform.; PackageReference: DPST-4; Publisher: Altium Limited; PackageDescription: Switch; 4 Leads
footprint DPST-4 (Switch; 4 Leads)
pins: 1 COMMON1, 2 NO1, 3 COMMON2, 4 NO2

## SW-PB
designator S?
Switch; Published: 24-Mar-1999; LatestRevisionDate: 17-Jul-2002; LatestRevisionNote: Re-released for DXP Platform.; PackageReference: SPST-2; Publisher: Altium Limited; PackageDescription: Switch; 2 Leads
footprint SPST-2 (Switch; 2 Leads)
pins: 1, 2

## SW-SPDT
designator S?
SPDT Subminiature Toggle Switch, Right Angle Mounting, Vertical Actuation; Published: 24-Mar-1999; LatestRevisionDate: 17-Dec-2003; LatestRevisionNote: Schematic revised, PCB Footprint replaced.; DatasheetVersion: 05-Dec-2000; PackageReference: TL36WW15050; Publisher: Altium Limited; PackageDescription: Switch; 4 Leads; ComponentLink1Description: Manufacturer Link; ComponentLink1URL: http://www.apem.com
footprint TL36WW15050 (Switch; 4 Leads)
pins: 1, 2, 3

## SW-SPST
designator S?
Single-Pole, Single-Throw Switch; Published: 24-Mar-1999; LatestRevisionDate: 17-Jul-2002; LatestRevisionNote: Re-released for DXP Platform.; PackageReference: SPST-2; Publisher: Altium Limited; PackageDescription: Switch; 2 Leads
footprint SPST-2 (Switch; 2 Leads)
pins: 1 COMMON, 2 NO

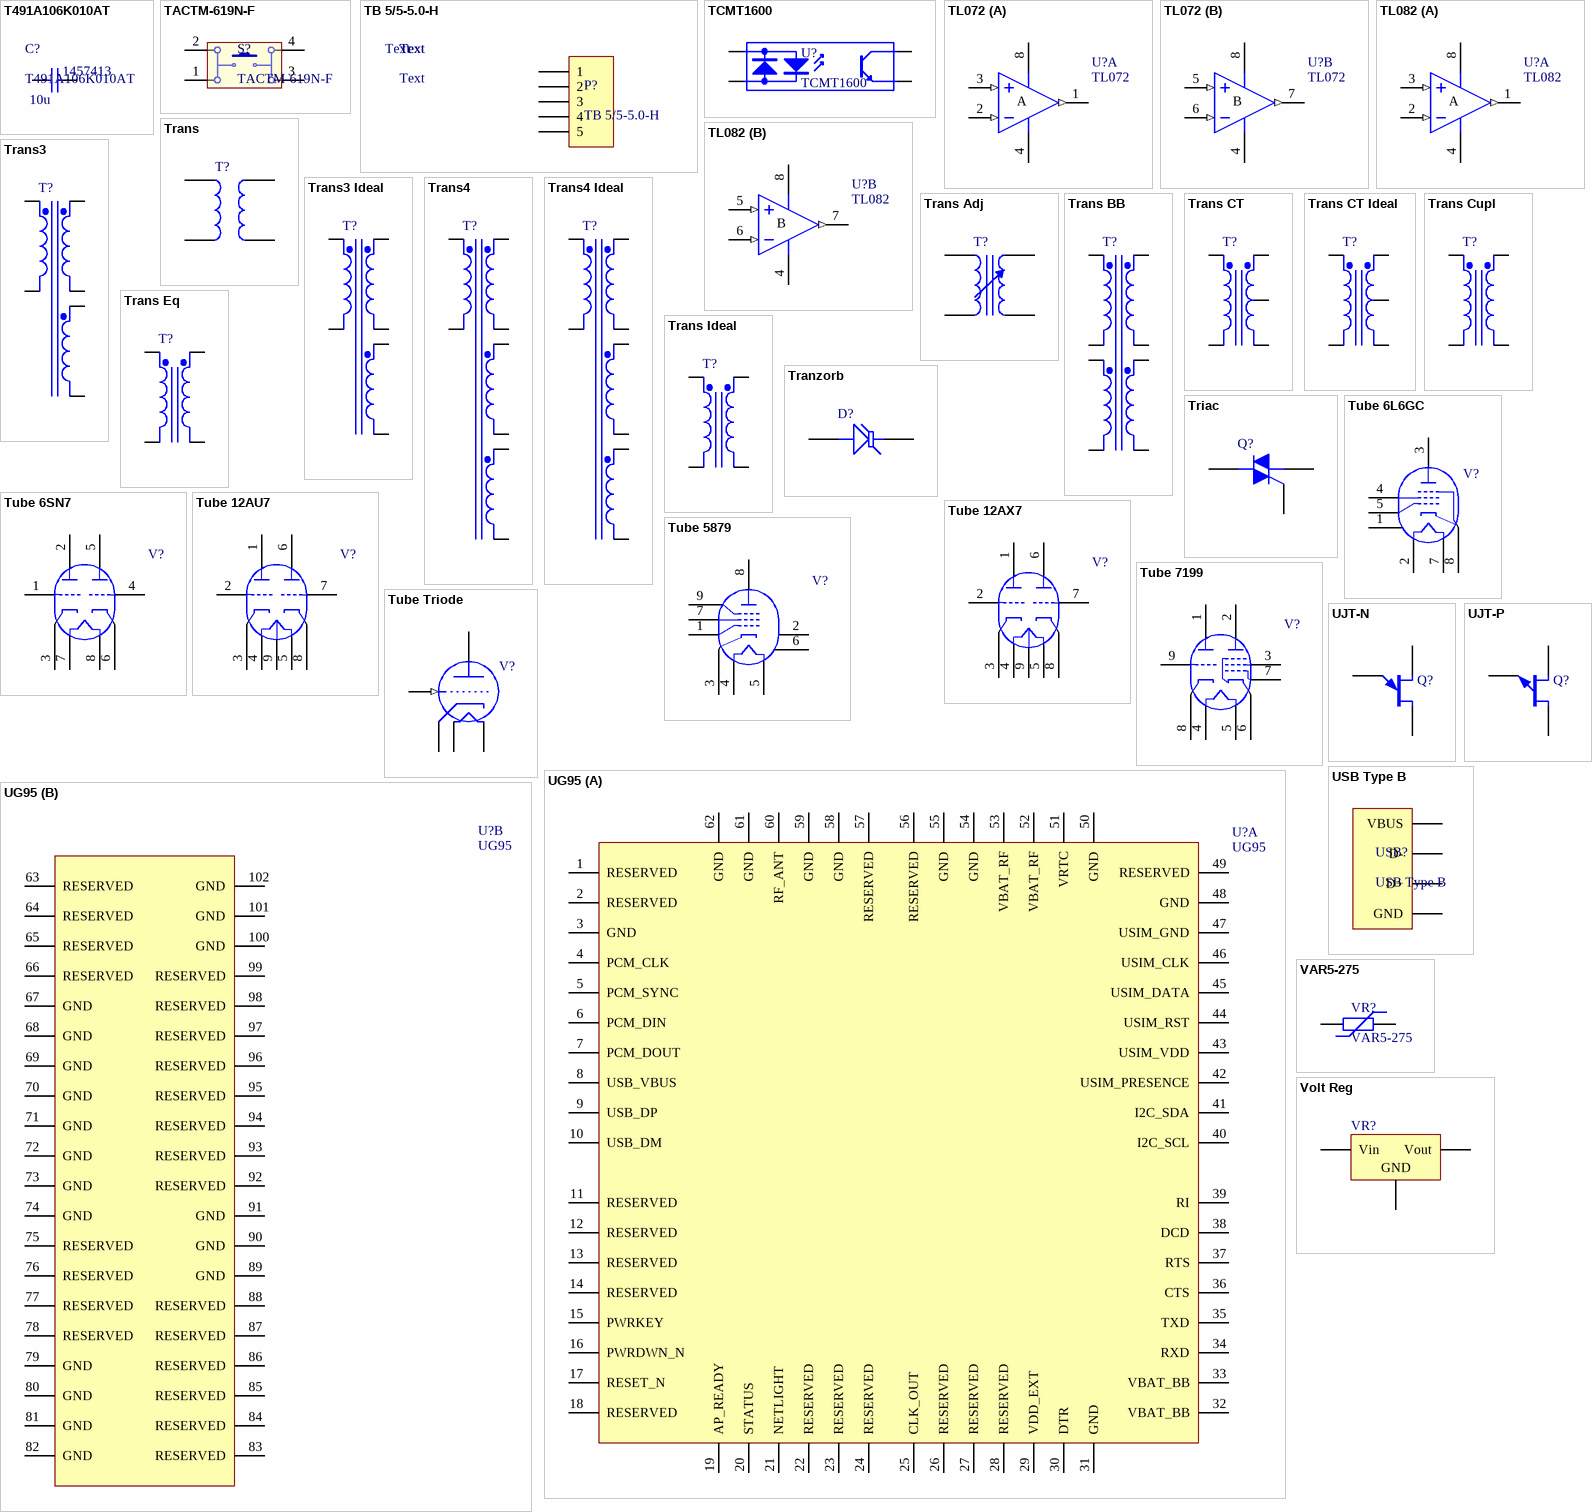
[diagram p12: symbols T491A106K010AT to Volt Reg]

## T491A106K010AT
designator C?  value 10u  Supplier Part Number 1: 1457413
Capacitor; ComponentLink1Desciption: Supplierlink; PackageDescription: Capacitor; ComponentLink1URL: http://si.farnell.com/kemet/t491a106k010at/cap-tant-10uf-10v-case-a/dp/1457413?ost=1457413&selectedCategoryId=&categoryNameResp=Vse%2Bkategorije&searchView=table&iscrfnonsku=false; ComponentLink2Description: Datasheet; ComponentLink2URL: http://www.farnell.com/datasheets/2119994.pdf?_ga=1.180748655.938531117.1476279422; Supplier1: Farnell
footprint T491A106K010AT (Chip Capacitor)
pins: 1, 2

## TACTM-619N-F
designator S?
Microswitch TACT; SPST-NO; Positions:2; 0.05A/12VDC; ComponentLink1Description: Supplierlink; ComponentLink1URL: https://www.tme.eu/en/details/tactm-619n-f/microswitches-tact/ninigi/; ComponentLink2Description: Datasheet; ComponentLink2URL: https://www.tme.eu/en/Document/4775f6520ae2603ad81b86e79483fd89/TACTM-619N-F-DTE.pdf; Supplier1: TME; SupplierPartNumber1: https://www.tme.eu/en/details/tactm-619n-f/microswitches-tact/ninigi/
footprint TACTM-619N-F (SPST-NO)
pins: 1, 2, 3, 4

## TB 5/5-5.0-H
designator P?
5/5-5.0-H -  Wire-To-Board Terminal Block; ComponentLink1Description: SupplierLink; ComponentLink1URL: http://si.farnell.com/phoenix-contact/pt1-5-5-5-0-h/terminal-block-wire-to-brd-5pos/dp/1793678; ComponentLink2Description: Datasheet; ComponentLink2URL: http://www.farnell.com/datasheets/2325514.pdf?_ga=2.170323240.922487917.1516839557-388806631.1512489217&_gac=1.247169526.1516696408.CjwKCAiA15vTBRAHEiwA7Snfc5aPYeD-J5ttgd5Xc7ZZSl9RhLSVBUwuJalpvFcgftWcOaxsZ6YiBhoC5JcQAvD_BwE; Supplier1: Farnell; SupplierPartNumber1: 1793678
footprint TB 5/5-5.0-H
pins: 1, 2, 3, 4, 5
text: Text

## TCMT1600
designator U?
ComponentLink1Description: Supplierlink; ComponentLink1URL: http://si.farnell.com/vishay/tcmt1600/optocoupler-transistor-o-p/dp/1469543?st=TCMT1600; ComponentLink2Description: Datasheet; ComponentLink2URL: http://www.farnell.com/datasheets/2049331.pdf?_ga=2.51402858.2976559.1516799392-1866036872.1506721459&_gac=1.247281142.1515412736.Cj0KCQiAyszSBRDJARIsAHAqQ4p5R3qZ2qs70hZPKglejP0cEAb9a5kdz8rr1XWlOilTbtuGZnZjed8aApCDEALw_wcB; Supplier1: Farnell; SupplierPartNumber1: 1469543
footprint SOP-4
pins: 1 A "Anode", 2 K "Cathode", 3 E "Emitter", 4 C "Collector"

## TL072
designator U?
TL072IDT  Operational Amplifier; PackageDescription: 8-Pin Small Outline Integrated Circuit 1.27 mm Pitch; ComponentLink1Description: Supplierlink; ComponentLink1URL: http://si.farnell.com/stmicroelectronics/tl072idt/op-amp-dual-4mhz-l-bias-8soic/dp/1750153; ComponentLink2Description: Datasheet; ComponentLink2URL: http://www.farnell.com/datasheets/1861173.pdf?_ga=1.113322244.242350128.1448355278; Supplier1: Farnell; Supplier1PartNumber: 1750153
footprint SO8_N (SOIC, 8-Leads, Body 4.9x3.9mm, Pitch 1.27mm, IPC Medium Density)
pins on every part: 4 V- (power), 8 V+ (power)
part A pins: 1 OUT (out), 2 IN- (in), 3 IN+ (in)
part B pins: 5 IN+ (in), 6 IN- (in), 7 OUT (out)
part A text: A
part B text: B

## TL082
designator U?
TL082CP  Operational Amplifier; PackageDescription: DIP; ComponentLink1Description: Supplierlink; ComponentLink1URL: http://si.farnell.com/texas-instruments/tl082cp/ic-op-amp-dual-jfet-dip8/dp/1106017; ComponentLink2Description: Datasheet; ComponentLink2URL: http://www.ti.com/lit/ds/symlink/tl082.pdf; Supplier1: Farnell; Supplier1PartNumber: 1106017
footprint SO8_N (SOIC, 8-Leads, Body 4.9x3.9mm, Pitch 1.27mm, IPC Medium Density)
footprint DIP-8 (DIP; 8 Leads; Row Spacing 7.62 mm; Pitch 2.54 mm)
pins on every part: 4 V- (power), 8 V+ (power)
part A pins: 1 OUT (out), 2 IN- (in), 3 IN+ (in)
part B pins: 5 IN+ (in), 6 IN- (in), 7 OUT (out)
part A text: A
part B text: B

## Trans
designator T?
Transformer; Published: 24-Mar-1999; LatestRevisionDate: 08-Jul-2005; LatestRevisionNote: Mech Layer 1 removed.; PackageReference: TRANS; Publisher: Altium Limited; PackageDescription: Transformer; 4 Leads
footprint TRANS (Transformer; 4 Leads)
simulation model TRANSFORMER (Transformer)
pins: 1, 2, 3, 4

## Trans3
designator T?
Three-winding Transformer (Non-Ideal); Sim Note: Enter the turns ratios, Core loss resistance, Magnetising Reactance, Leakage Reactances and Resistances referred to the primary side into the parameter fields.; Published: 25-Jan-2001; LatestRevisionDate: 17-Jul-2002; LatestRevisionNote: Re-released for DXP Platform.; PackageReference: TRF_6; Publisher: Altium Limited; PackageDescription: Transformer; 6 Leads
footprint TRF_6 (Transformer; 6 Leads)
pins: 1 Pri+, 2 Pri-, 3 Sec1+, 4 Sec1-, 5 Sec2+, 6 Sec2-

## Trans3 Ideal
designator T?
Three-winding Transformer (Ideal); Published: 25-Jan-2001; LatestRevisionDate: 17-Jul-2002; LatestRevisionNote: Re-released for DXP Platform.; PackageReference: TRF_6; Publisher: Altium Limited; PackageDescription: Transformer; 6 Leads
footprint TRF_6 (Transformer; 6 Leads)
pins: 1 Pri+, 2 Pri-, 3 Sec1+, 4 Sec1-, 5 Sec2+, 6 Sec2-

## Trans4
designator T?
Four-winding Transformer (Non-Ideal); Sim Note: Enter the turns ratios, Core loss resistance, Magnetising Reactance, Leakage Reactances and Resistances referred to the primary side into the parameter fields.; Published: 25-Jan-2001; LatestRevisionDate: 17-Jul-2002; LatestRevisionNote: Re-released for DXP Platform.; PackageReference: TRF_8; Publisher: Altium Limited; PackageDescription: Transformer; 8 Leads
footprint TRF_8 (Transformer; 8 Leads)
pins: 1 Pri+, 2 Pri-, 3 Sec1+, 4 Sec1-, 5 Sec2+, 6 Sec2-, 7 Sec3+, 8 Sec3-

## Trans4 Ideal
designator T?
Four-winding Transformer (Ideal); Published: 25-Jan-2001; LatestRevisionDate: 17-Jul-2002; LatestRevisionNote: Re-released for DXP Platform.; PackageReference: TRF_8; Publisher: Altium Limited; PackageDescription: Transformer; 8 Leads
footprint TRF_8 (Transformer; 8 Leads)
pins: 1 Pri+, 2 Pri-, 3 Sec1+, 4 Sec1-, 5 Sec2+, 6 Sec2-, 7 Sec3+, 8 Sec3-

## Trans Adj
designator T?
Variable Transformer; Published: 24-Mar-1999; LatestRevisionDate: 17-Jul-2002; LatestRevisionNote: Re-released for DXP Platform.; PackageReference: TRF_4; Publisher: Altium Limited; PackageDescription: Transformer; 4 Leads
footprint TRF_4 (Transformer; 4 Leads)
simulation model TRANSFORMER (Transformer)
pins: 1, 2, 3, 4

## Trans BB
designator T?
Buck-boost Transformer (Ideal); Published: 25-Jan-2001; LatestRevisionDate: 17-Jul-2002; LatestRevisionNote: Re-released for DXP Platform.; PackageReference: TRF_8; Publisher: Altium Limited; PackageDescription: Transformer; 8 Leads
footprint TRF_8 (Transformer; 8 Leads)
pins: 1 Pri1+, 2 Pri1-, 3 Pri2+, 4 Pri2-, 5 Sec1+, 6 Sec1-, 7 Sec2+, 8 Sec2-

## Trans CT
designator T?
Center-Tapped Transformer (Coupled Inductor Model); Published: 8-Jun-2000; LatestRevisionDate: 17-Jul-2002; LatestRevisionNote: Re-released for DXP Platform.; PackageReference: TRF_5; Publisher: Altium Limited; PackageDescription: Transformer; 5 Leads
footprint TRF_5 (Transformer; 5 Leads)
simulation model TRANSFORMER (Transformer)
pins: 1 Pri+, 2 Pri-, 3 Sec+, 4 SecCT, 5 Sec-

## Trans CT Ideal
designator T?
Center-Tapped Transformer (Ideal); Published: 8-Jun-2000; LatestRevisionDate: 17-Jul-2002; LatestRevisionNote: Re-released for DXP Platform.; PackageReference: TRF_5; Publisher: Altium Limited; PackageDescription: Transformer; 5 Leads
footprint TRF_5 (Transformer; 5 Leads)
pins: 1 Pri+, 2 Pri-, 3 Sec+, 4 SecCT, 5 Sec-

## Trans Cupl
designator T?
Transformer (Coupled Inductor Model); Published: 8-Jun-2000; LatestRevisionDate: 17-Jul-2002; LatestRevisionNote: Re-released for DXP Platform.; PackageReference: TRF_4; Publisher: Altium Limited; PackageDescription: Transformer; 4 Leads
footprint TRF_4 (Transformer; 4 Leads)
simulation model TRANSFORMER (Transformer)
pins: 1 Pri+, 2 Pri-, 3 Sec+, 4 Sec-

## Trans Eq
designator T?
Transformer (Equivalent Circuit Model); Published: 8-Jun-2000; LatestRevisionDate: 17-Jul-2002; LatestRevisionNote: Re-released for DXP Platform.; PackageReference: TRF_4; Publisher: Altium Limited; PackageDescription: Transformer; 4 Leads
footprint TRF_4 (Transformer; 4 Leads)
pins: 1 Pri+, 2 Pri-, 3 Sec+, 4 Sec-

## Trans Ideal
designator T?
Transformer (Ideal); Published: 8-Jun-2000; LatestRevisionDate: 17-Jul-2002; LatestRevisionNote: Re-released for DXP Platform.; PackageReference: TRF_4; Publisher: Altium Limited; PackageDescription: Transformer; 4 Leads
footprint TRF_4 (Transformer; 4 Leads)
pins: 1 Pri+, 2 Pri-, 3 Sec+, 4 Sec-

## Tranzorb
designator D?
Transient Voltage Suppression (TVS) Diode; Published: 24-Mar-1999; LatestRevisionDate: 17-Jul-2002; LatestRevisionNote: Re-released for DXP Platform.; PackageReference: DO-7; Publisher: Altium Limited; PackageDescription: Axial Lead Diode
footprint DO-7 (Diode, Axial; Body 7 x 2.7 mm (LxDia. max), Lead Dia. 0.53 mm (max))
pins: 1 A, 2 K

## Triac
designator Q?
Silicon Bidirectional Triode Thyristor; Note: Pin 2 is electrically connected to Pin 4 (TAB); Published: 29-Sep-2000; LatestRevisionDate: 17-Jul-2002; LatestRevisionNote: Re-released for DXP Platform.; DatasheetVersion: 1999; PackageReference: 369-03; Publisher: Altium Limited; PackageDescription: TO, Thru-Hole, Vertical, Heatsink Mounted; 3 In-Line Leads; Pitch 2.28 mm; ComponentLink1Description: Manufacturer Link; ComponentLink1URL: http://www.motorola.com/
footprint 369-03 (TO, Thru-Hole, Vertical, Heatsink Mounted; 3 In-Line Leads; Pitch 2.28 mm)
pins: 1 M1, 2 M2, 3 G

## Tube 6L6GC
designator V?
Beam Power Pentode; Note: Pin 6 is omitted from the tube package, Pin 1 is Not Connected; Published: 8-Jun-2000; LatestRevisionDate: 17-Jul-2002; LatestRevisionNote: Re-released for DXP Platform.; PackageReference: VTUBE-7; Publisher: Altium Limited; PackageDescription: Vacuum Tube; 7 Leads
footprint VTUBE-7 (Vacuum Tube; 7 Leads)
pins: 1 NC, 2 H, 3 PT, 4 GT2, 5 GT1, 7 H, 8 G3, KT

## Tube 6SN7
designator V?
Medium Mu Dual Triode; Published: 8-Jun-2000; LatestRevisionDate: 17-Jul-2002; LatestRevisionNote: Re-released for DXP Platform.; PackageReference: VTUBE-8; Publisher: Altium Limited; PackageDescription: Vacuum Tube; 8 Leads
footprint VTUBE-8 (Vacuum Tube; 8 Leads)
pins: 1 GT1, 2 PT1, 3 KT1, 4 GT2, 5 PT2, 6 KT2, 7 H, 8 H

## Tube 12AU7
designator V?
Medium Mu Dual Triode; Published: 8-Jun-2000; LatestRevisionDate: 17-Jul-2002; LatestRevisionNote: Re-released for DXP Platform.; PackageReference: VTUBE-9; Publisher: Altium Limited; PackageDescription: Vacuum Tube; 9 Leads
footprint VTUBE-9 (Vacuum Tube; 9 Leads)
pins: 1 PT1, 2 GT1, 3 KT1, 4 H, 5 H, 6 PT2, 7 GT2, 8 KT2, 9 HM

## Tube 12AX7
designator V?
High Mu Dual Triode; Published: 8-Jun-2000; LatestRevisionDate: 17-Jul-2002; LatestRevisionNote: Re-released for DXP Platform.; PackageReference: VTUBE-9; Publisher: Altium Limited; PackageDescription: Vacuum Tube; 9 Leads
footprint VTUBE-9 (Vacuum Tube; 9 Leads)
pins: 1 PT1, 2 GT1, 3 KT1, 4 H, 5 H, 6 PT2, 7 GT2, 8 KT2, 9 HM

## Tube 5879
designator V?
Sharp Cutoff Pentode; Note: Pins 2 and 6 are not connected.; Published: 8-Jun-2000; LatestRevisionDate: 17-Jul-2002; LatestRevisionNote: Re-released for DXP Platform.; PackageReference: VTUBE-9; Publisher: Altium Limited; PackageDescription: Vacuum Tube; 9 Leads
footprint VTUBE-9 (Vacuum Tube; 9 Leads)
pins: 1 GT1, 2 NC, 3 KT, 4 H, 5 H, 6 NC, 7 GT2, 8 PT, 9 GT3

## Tube 7199
designator V?
Medium Mu Triode and Sharp Cutoff Pentode; Published: 8-Jun-2000; LatestRevisionDate: 17-Jul-2002; LatestRevisionNote: Re-released for DXP Platform.; PackageReference: VTUBE-9; Publisher: Altium Limited; PackageDescription: Vacuum Tube; 9 Leads
footprint VTUBE-9 (Vacuum Tube; 9 Leads)
pins: 1 PT1, 2 PT2, 3 GT2, 4 H, 5 H, 6 KT2, 7 GT3, 8 KT1, 9 GT1

## Tube Triode
designator V?
Thyratron; Published: 24-Mar-1999; LatestRevisionDate: 17-Jul-2002; LatestRevisionNote: Re-released for DXP Platform.; PackageReference: VTUBE-5; Publisher: Altium Limited; PackageDescription: Vacuum Tube; 5 Leads
footprint VTUBE-5 (Vacuum Tube; 5 Leads)
pins: 1 GRID (in), 2 PLATE, 3 CATHODE, 4 FILAMENT1, 5 FILAMENT2

## UG95
designator U?
UMTS/HSPA Module; ComponentLink1Desciption: Supplierlink; ComponentLink1URL: https://www.codico.com/shop/en/ug95ea-128-std.html; ComponentLink2Description: Datasheet; ComponentLink2URL: http://dl.btc.pl/kamami_wa/ug95_hd.pdf; PackageDescription: LGA package; Supplier1: Codico; Supplier Part Number 1: 261640
footprint UG95
part A pins: 1 RESERVED, 2 RESERVED, 3 GND, 4 PCM_CLK, 5 PCM_SYNC, 6 PCM_DIN, 7 PCM_DOUT, 8 USB_VBUS, 9 USB_DP, 10 USB_DM, 11 RESERVED, 12 RESERVED, 13 RESERVED, 14 RESERVED, 15 PWRKEY, 16 PWRDWN_N, 17 RESET_N, 18 RESERVED, 19 AP_READY, 20 STATUS, 21 NETLIGHT, 22 RESERVED, 23 RESERVED, 24 RESERVED, 25 CLK_OUT, 26 RESERVED, 27 RESERVED, 28 RESERVED, 29 VDD_EXT, 30 DTR, 31 GND, 32 VBAT_BB, 33 VBAT_BB, 34 RXD, 35 TXD, 36 CTS, 37 RTS, 38 DCD, 39 RI, 40 I2C_SCL, 41 I2C_SDA, 42 USIM_PRESENCE, 43 USIM_VDD, 44 USIM_RST, 45 USIM_DATA, 46 USIM_CLK, 47 USIM_GND, 48 GND, 49 RESERVED, 50 GND, 51 VRTC, 52 VBAT_RF, 53 VBAT_RF, 54 GND, 55 GND, 56 RESERVED, 57 RESERVED, 58 GND, 59 GND, 60 RF_ANT, 61 GND, 62 GND
part B pins: 63 RESERVED, 64 RESERVED, 65 RESERVED, 66 RESERVED, 67 GND, 68 GND, 69 GND, 70 GND, 71 GND, 72 GND, 73 GND, 74 GND, 75 RESERVED, 76 RESERVED, 77 RESERVED, 78 RESERVED, 79 GND, 80 GND, 81 GND, 82 GND, 83 RESERVED, 84 RESERVED, 85 RESERVED, 86 RESERVED, 87 RESERVED, 88 RESERVED, 89 GND, 90 GND, 91 GND, 92 RESERVED, 93 RESERVED, 94 RESERVED, 95 RESERVED, 96 RESERVED, 97 RESERVED, 98 RESERVED, 99 RESERVED, 100 GND, 101 GND, 102 GND
2 alternate drawings of the same symbol

## UJT-N
designator Q?
Unijunction Transistor with N-Type Base; Published: 8-Jun-2000; LatestRevisionDate: 17-Jul-2002; LatestRevisionNote: Re-released for DXP Platform.; PackageReference: TO-39; Publisher: Altium Limited; PackageDescription: Can; 3 Leads; Pin Circle Dia. 5.08 mm; Lead Dia. 0.48 mm (max); Code_JEDEC: TO-205-AF
footprint TO-39 (Can; 3 Leads; Pin Circle Dia. 5.08 mm; Lead Dia. 0.48 mm (max))
pins: 1 E, 2 B1, 3 B2

## UJT-P
designator Q?
Unijunction Transistor with P-Type Base; Published: 24-Mar-1999; LatestRevisionDate: 17-Jul-2002; LatestRevisionNote: Re-released for DXP Platform.; PackageReference: TO-205AF; Publisher: Altium Limited; PackageDescription: Can; 3 Leads; Pin Circle Dia. 5.08 mm; Lead Dia. 0.53 mm (max); Code_JEDEC: TO-205-AF
footprint TO-205AF (Can; 3 Leads; Pin Circle Dia. 5.08 mm; Lead Dia. 0.53 mm (max))
pins: 1 E, 2 B1, 3 B2

## USB Type B
designator USB?
ComponentLink1Description: SupplierLink; ComponentLink1URL: http://si.farnell.com/multicomp/usb-b-s-ra/usb-2-0-type-b-receptacle-th/dp/2112373?ost=2112373&selectedCategoryId=&categoryNameResp=Vse%2Bkategorije&searchView=table&iscrfnonsku=false; ComponentLink2Description: Datasheet; ComponentLink2URL: http://www.farnell.com/datasheets/1643399.pdf?_ga=1.48976864.757351841.1476283473; Supplier1: Farnell; Supplier Part Number 1: 2112373; Value: *; PacketDescription: *
footprint USB TYPE B
pins: 1 VBUS, 2 D-, 3 D+, 4 GND

## VAR5-275
designator VR?
Varistor-metal-oxide; THT; 275VAC; ComponentLink1Description: Supplierlink; PackageDescription: 5 mm; ComponentLink1URL: https://www.tme.eu/gb/details/var5-275/tht-varistors/sr-passives/; ComponentLink2Description: Datasheet; ComponentLink2URL: https://www.tme.eu/gb/Document/a164eff462f1e93c701f45bf8f95368c/SR_PASSIVES-VAR5.pdf; Supplier1: TME; SupplierPartNumber1: https://www.tme.eu/gb/details/var5-275/tht-varistors/sr-passives/
footprint VAR_5MM
pins: 1, 2

## Volt Reg
designator VR?
Voltage Regulator; Published: 24-Mar-1999; LatestRevisionDate: 29-May-2009; LatestRevisionNote: IPC-7351 Footprint Added.; PackageReference: D2PAK; Publisher: Altium Limited; PackageDescription: 3-Pin Transistor Outline Package 2.54 mm Pitch, 15.1 mm Lead Span
footprint D2PAK_N (D2-PAK, 4-Leads, Body 8.8x10.4mm, Pitch 2.54mm, Lead Span 15.1mm, IPC Medium Density)
footprint D2PAK_L (D2-PAK, 4-Leads, Body 8.8x10.4mm, Pitch 2.54mm, Lead Span 15.1mm, IPC High Density)
footprint D2PAK_M (D2-PAK, 4-Leads, Body 8.8x10.4mm, Pitch 2.54mm, Lead Span 15.1mm, IPC Low Density)
pins: 1 Vin, 2 GND, 3 Vout

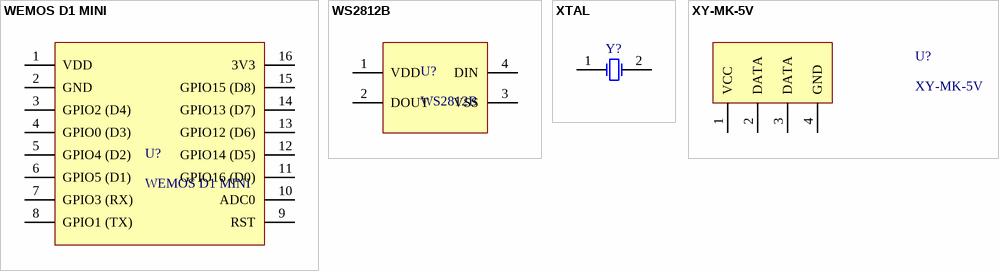
[diagram p13: symbols WEMOS D1 MINI to XY-MK-5V]

## WEMOS D1 MINI
designator U?
WiFi - Module; ComponentLink2Description: Datasheet; ComponentLink1URL: https://www.aliexpress.com/item/D1-mini-Mini-NodeMcu-4M-bytes-Lua-WIFI-Internet-of-Things-development-board-based-ESP8266-by/32644199530.html?spm=2114.search0104.3.1.696c4f8dpiJlbc&ws_ab_test=searchweb0_0,searchweb201602_4_10065_10068_5723115_5910015_5723715_5890015_5723815_10696_5723215_5724015_5723415_10084_10083_5970015_10618_5724315_10304_10307_10820_10301_10821_5724215_5723315_5724115_5723615_10059_5723015_100031_5723915_5725015_10103_5725115_5980015_5724915_5990015,searchweb201603_2,ppcSwitch_5&algo_expid=b80d5f96-c6fa-40b3-b0f4-8e7773b068ea-0&algo_pvid=b80d5f96-c6fa-40b3-b0f4-8e7773b068ea&transAbTest=ae803_1&priceBeautifyAB=0; Supplier1: AliExpress; SupplierPartNumber1: https://www.aliexpress.com/item/D1-mini-Mini-NodeMcu-4M-bytes-Lua-WIFI-Internet-of-Things-development-board-based-ESP8266-by/32644199530.html?spm=2114.search0104.3.1.696c4f8dpiJlbc&ws_ab_test=searchweb0_0,searchweb201602_4_10065_10068_5723115_5910015_5723715_5890015_5723815_10696_5723215_5724015_5723415_10084_10083_5970015_10618_5724315_10304_10307_10820_10301_10821_5724215_5723315_5724115_5723615_10059_5723015_100031_5723915_5725015_10103_5725115_5980015_5724915_5990015,searchweb201603_2,ppcSwitch_5&algo_expid=b80d5f96-c6fa-40b3-b0f4-8e7773b068ea-0&algo_pvid=b80d5f96-c6fa-40b3-b0f4-8e7773b068ea&transAbTest=ae803_1&priceBeautifyAB=0; ComponentLink1Description: Supplierlink; ComponentLink2URL: https://einstronic.com/wp-content/uploads/2017/06/WeMos-D1-Mini-Series-Catalogue.pdf
footprint Wemos_d1_mini
pins: 1 VDD, 2 GND, 3 GPIO2 (D4), 4 GPIO0 (D3), 5 GPIO4 (D2), 6 GPIO5 (D1), 7 GPIO3 (RX), 8 GPIO1 (TX), 9 RST, 10 ADC0, 11 GPIO16 (D0), 12 GPIO14 (D5), 13 GPIO12 (D6), 14 GPIO13 (D7), 15 GPIO15 (D8), 16 3V3

## WS2812B
designator U?
PackageDescription: WS2812B; ComponentLink2Description: Datasheet; ComponentLink1URL: https://www.tme.eu/sl/details/ws2812b/diode-led-smd-barvne/worldsemi/; Supplier1: TME; SupplierPartNumber1: https://www.tme.eu/sl/details/ws2812b/diode-led-smd-barvne/worldsemi/; ComponentLink1Description: Supplierlink; ComponentLink2URL: https://www.tme.eu/sl/Document/9e27cea93931357e35dc643730b6ed06/WS2812B.pdf
footprint WS2812B
pins: 1 VDD, 2 DOUT, 3 VSS, 4 DIN

## XTAL
designator Y?
Crystal Oscillator; Published: 8-Jun-2000; LatestRevisionDate: 17-Jul-2002; LatestRevisionNote: Re-released for DXP Platform.; PackageReference: R38; Publisher: Altium Limited; PackageDescription: Crystal, Thru-Hole; 2 Leads; Body 3.1 x 8.2 mm (Dia.xH)
footprint R38 (Crystal, Thru-Hole; 2 Leads; Body 3.1 x 8.2 mm (Dia.xH))
pins: 1 OSC1, 2 OSC2

## XY-MK-5V
designator U?
XY-MK-5V - RF - Receiver; ComponentLink1Desciption: Supplierlink; PackageDescription: /; ComponentLink1URL: /; ComponentLink2Description: Datasheet; ComponentLink2URL: /; Supplier1: Farnell; SupplierPartNumber1: /
footprint XY-MK-5V
pins: 1 VCC, 2 DATA, 3 DATA, 4 GND